# EAGLE library part IS62C256AL (library toyotune)
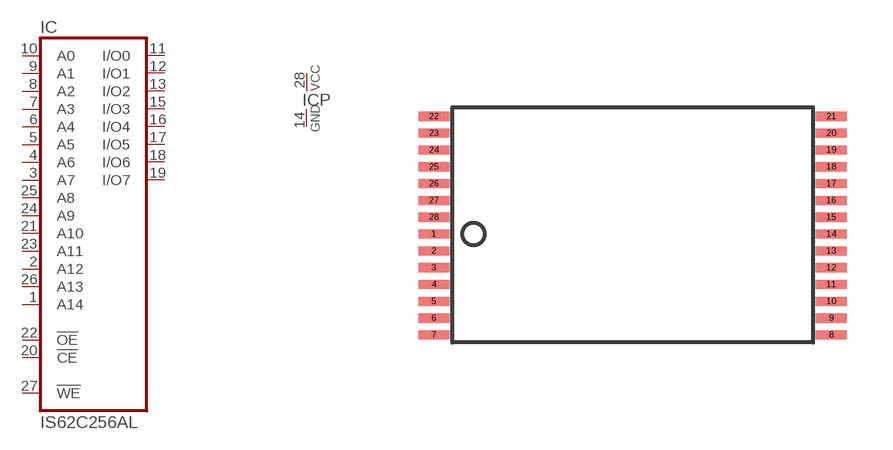
[diagram p10: symbol with the pads of TSOP28; footprint TSOP28]

Designator prefix IC; gates =IS62C256AL P=PWR

## IS62C256AL  [TSOP28]
1  :A14  in
2  :A12  in
3  :A7  in
4  :A6  in
5  :A5  in
6  :A4  in
7  :A3  in
8  :A2  in
9  :A1  in
10  :A0  in
11  :I/O0
12  :I/O1
13  :I/O2
14  P:GND  pwr
15  :I/O3
16  :I/O4
17  :I/O5
18  :I/O6
19  :I/O7
20  :!CE  in
21  :A10  in
22  :!OE  in
23  :A11  in
24  :A9  in
25  :A8  in
26  :A13  in
27  :!WE  in
28  P:VCC  pwr

## Footprint TSOP28 (pad centres in mm)
TSOP 1-28 28-pin Thin Small Outline Package Type 1 (8 x 13.4 mm) (51-85071) Source: http://download.cypress.com.edgesuite.net/design_resources/datasheets/contents/cy62256_8.pdf
smd 1 x 0.3: 1 -6.5,-0.35; 2 -6.5,-0.9; 3 -6.5,-1.45; 4 -6.5,-2; 5 -6.5,-2.55; 6 -6.5,-3.1; 7 -6.5,-3.65; 8 6.5,-3.65; 9 6.5,-3.1; 10 6.5,-2.55; 11 6.5,-2; 12 6.5,-1.45; 13 6.5,-0.9; 14 6.5,-0.35; 15 6.5,0.2; 16 6.5,0.75; 17 6.5,1.3; 18 6.5,1.85; 19 6.5,2.4; 20 6.5,2.95; 21 6.5,3.5; 22 -6.5,3.5; 23 -6.5,2.95; 24 -6.5,2.4; 25 -6.5,1.85; 26 -6.5,1.3; 27 -6.5,0.75; 28 -6.5,0.2